# Altium schematic symbol library STM32G0C1VEI6.SchLib: 1 symbol
Pins are listed as number, name and electrical type; pins without a type are passive.

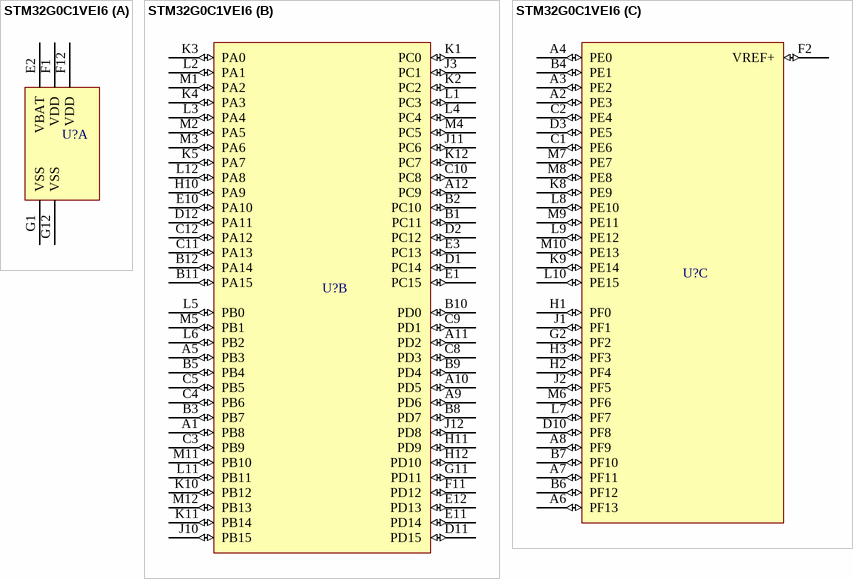
[diagram p0: symbol STM32G0C1VEI6]

## STM32G0C1VEI6
designator U?  (value not drawn)
Mainstream Arm Cortex-M0+ 32-bit MCU, up to 512KB Flash, 144KB RAM, 6x USART, timers, ADC, DAC, comm. I/Fs, AES, RNG, 1.7-3.6V
part A pins: E2 VBAT (power), F1 VDD (power), F12 VDD (power), G1 VSS (power), G12 VSS (power)
part B pins: A1 PB8 (io), A5 PB3 (io), A9 PD6 (io), A10 PD5 (io), A11 PD2 (io), A12 PC9 (io), B1 PC11 (io), B2 PC10 (io), B3 PB7 (io), B5 PB4 (io), B8 PD7 (io), B9 PD4 (io), B10 PD0 (io), B11 PA15 (io), B12 PA14 (io), C3 PB9 (io), C4 PB6 (io), C5 PB5 (io), C8 PD3 (io), C9 PD1 (io), C10 PC8 (io), C11 PA13 (io), C12 PA12 (io), D1 PC14 (io), D2 PC12 (io), D11 PD15 (io), D12 PA11 (io), E1 PC15 (io), E3 PC13 (io), E10 PA10 (io), E11 PD14 (io), E12 PD13 (io), F11 PD12 (io), G11 PD11 (io), H10 PA9 (io), H11 PD9 (io), H12 PD10 (io), J3 PC1 (io), J10 PB15 (io), J11 PC6 (io), J12 PD8 (io), K1 PC0 (io), K2 PC2 (io), K3 PA0 (io), K4 PA3 (io), K5 PA7 (io), K10 PB12 (io), K11 PB14 (io), K12 PC7 (io), L1 PC3 (io), L2 PA1 (io), L3 PA4 (io), L4 PC4 (io), L5 PB0 (io), L6 PB2 (io), L11 PB11 (io), L12 PA8 (io), M1 PA2 (io), M2 PA5 (io), M3 PA6 (io), M4 PC5 (io), M5 PB1 (io), M11 PB10 (io), M12 PB13 (io)
part C pins: A2 PE3 (io), A3 PE2 (io), A4 PE0 (io), A6 PF13 (io), A7 PF11 (io), A8 PF9 (io), B4 PE1 (io), B6 PF12 (io), B7 PF10 (io), C1 PE6 (io), C2 PE4 (io), D3 PE5 (io), D10 PF8 (io), F2 VREF+ (io), G2 PF2 (io), H1 PF0 (io), H2 PF4 (io), H3 PF3 (io), J1 PF1 (io), J2 PF5 (io), K8 PE9 (io), K9 PE14 (io), L7 PF7 (io), L8 PE10 (io), L9 PE12 (io), L10 PE15 (io), M6 PF6 (io), M7 PE7 (io), M8 PE8 (io), M9 PE11 (io), M10 PE13 (io)